# Altium schematic symbol library Dog_Tag.SchLib: 4 symbols
Pins are listed as number, name and electrical type; pins without a type are passive.

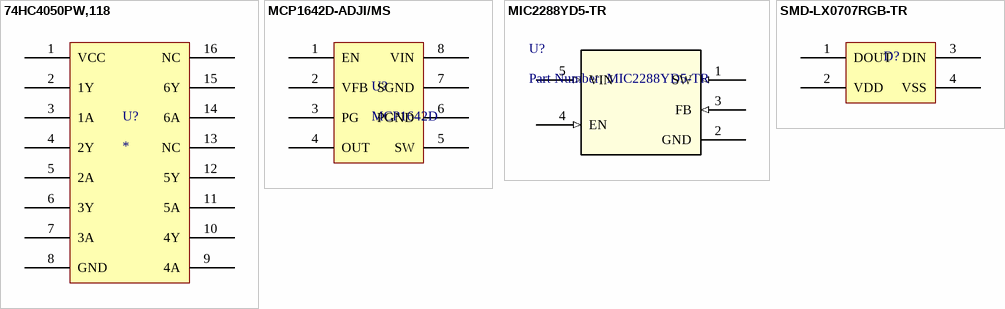
[diagram p0: symbols 74HC4050PW,118 to SMD-LX0707RGB-TR]

## 74HC4050PW,118
designator U?
Buffer/LevelShifter, Non-Inverting 6 Element 1 Bit per Element Push-Pull Output 16-TSSOP; ComponentLink1Description: Digikey; ComponentLink1URL: https://www.digikey.com/product-detail/en/nexperia-usa-inc/74HC4050PW118/1727-5956-1-ND/2753784
footprint 74HC4050PW (Buffer, Non-Inverting 6 Element 1 Bit per Element Push-Pull Output 16-TSSOP)
pins: 1 VCC, 2 1Y, 3 1A, 4 2Y, 5 2A, 6 3Y, 7 3A, 8 GND, 9 4A, 10 4Y, 11 5A, 12 5Y, 13 NC, 14 6A, 15 6Y, 16 NC

## MCP1642D-ADJI/MS
designator U?, comment MCP1642D
Boost Switching Regulator IC Positive Adjustable 1.8V 1 Output 800mA 8-TSSOP, 8-MSOP (0.118", 3.00mm Width); ComponentLink1Description: Digikey; ComponentLink1URL: https://www.digikey.com/product-detail/en/microchip-technology/MCP1642D-ADJI-MS/MCP1642D-ADJI-MS-ND/5137721
footprint MCP1642D (Boost Switching Regulator IC Positive Adjustable 1.8V 1 Output 800mA 8-TSSOP, 8-MSOP (0.118", 3.00mm Width))
pins: 1 EN, 2 VFB, 3 PG, 4 OUT, 5 SW, 6 PGND, 7 SGND, 8 VIN

## MIC2288YD5-TR
designator U?, comment Part Number: MIC2288YD5-TR
5V Boost Converter; Vendor: Microchip; Built_By: EMA_Jessica; Manufacturer_Part_Number: MIC2288YD5-TR; Copyright: Copyright (C) 2018 Accelerated Designs. All rights reserved; RefDes: RefDes; Type: DEV; Value: Value
footprint TSOT-23-5_D5
pins: 1 SW (in), 2 GND (power), 3 FB (in), 4 EN (in), 5 VIN (in)

## SMD-LX0707RGB-TR
designator D?  (value not drawn)
ComponentLink1Description: Digikey; ComponentLink1URL: https://www.digikey.com/product-detail/en/lumex-opto-components-inc/SMD-LX0707RGB-TR/67-2331-1-ND/9858269
footprint SMD-LX0707RGB-TR
pins: 1 DOUT, 2 VDD, 3 DIN, 4 VSS